# Altium footprint library Heat-Sinks.PcbLib: 58 footprints (part 1 of 4)
Each footprint in its own frame and in the unit in brackets; x right, y up, seen from the top. Pads: shape width x height; smd on the part's side, far side on the other; paste and mask are expansions set on the pad; w line width, h text height; cw(c..) or ccw(c..) is an arc to the next point about the centre after c.
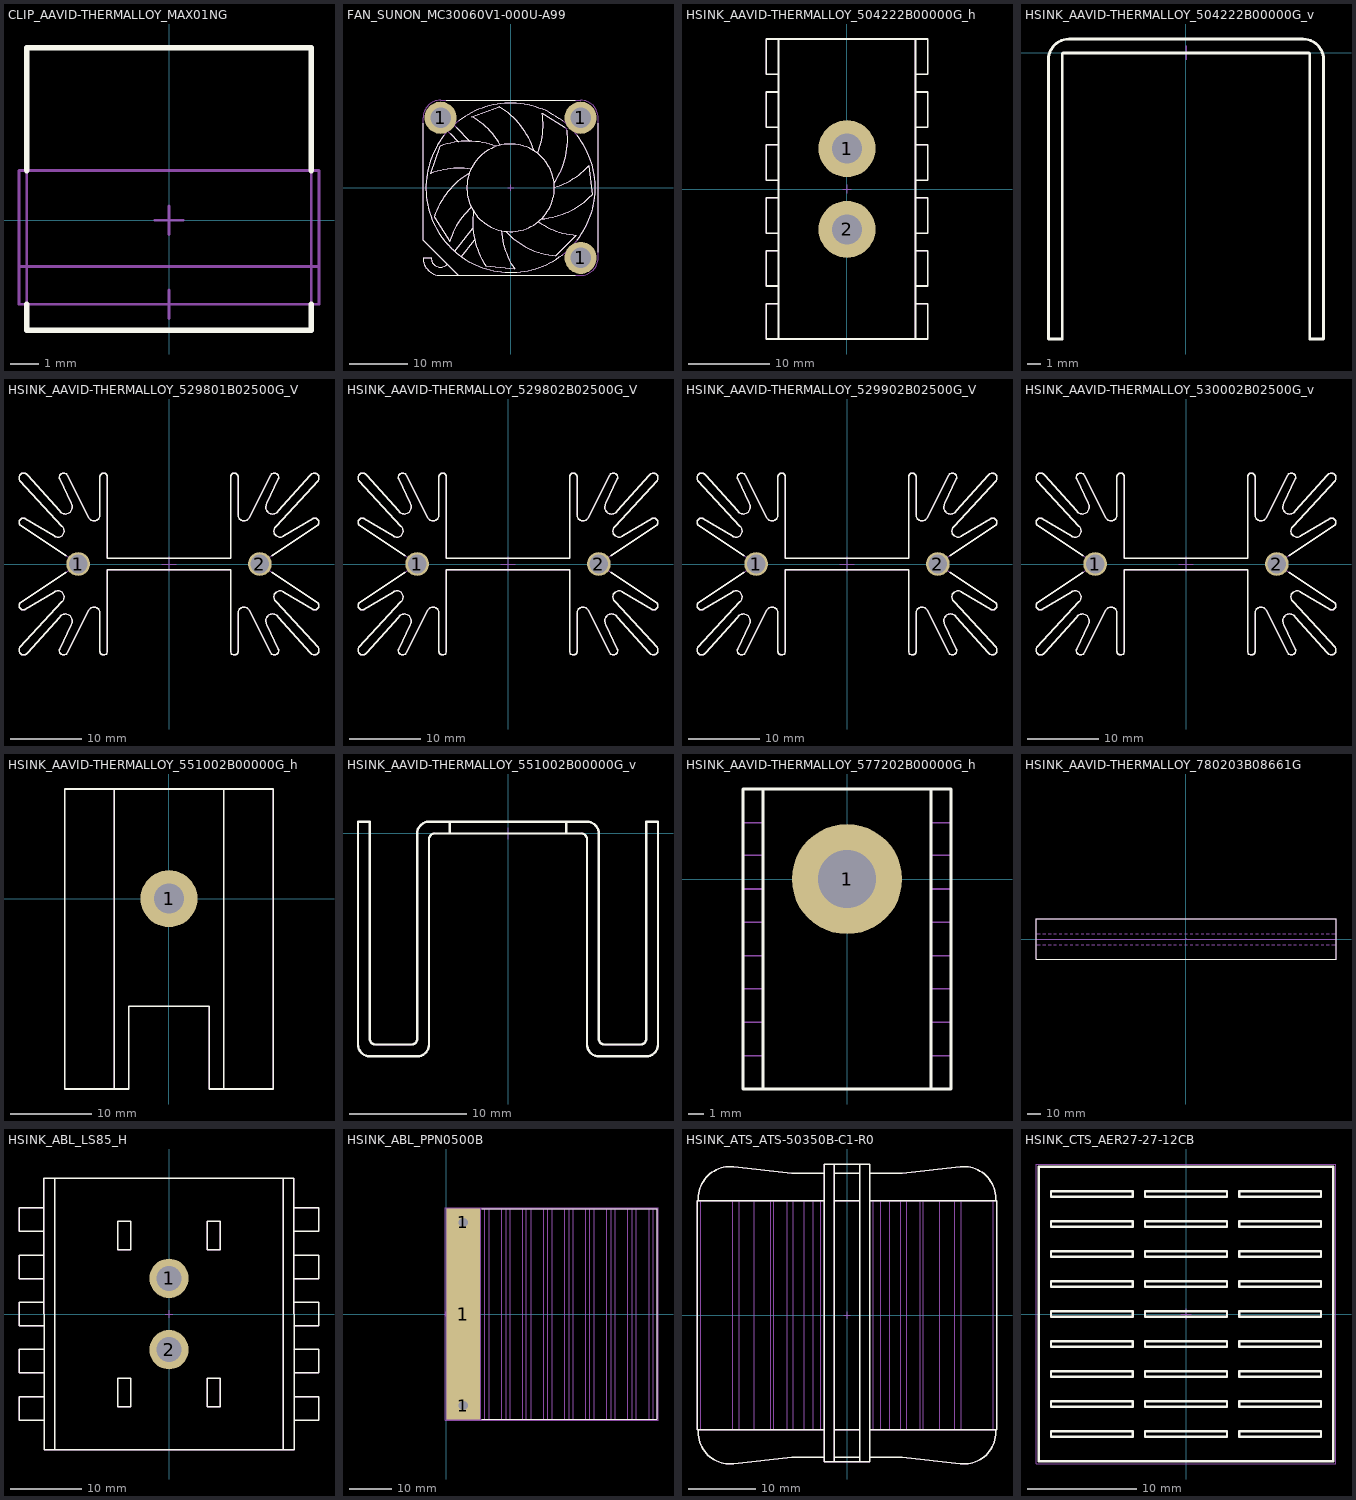
[diagram p0: the footprints below, top view; thin cyan lines are the x and y axes]

## CLIP_AAVID-THERMALLOY_MAX01NG [mm] "Retaining Clip for TO-220 Case (for Use with 78020 Heat-Sink)"
height 22
Top Overlay:
  lines w0.2: -5,-2.95 -5,-3.86 5,-3.86 5,-2.95 ; -5,1.75 -5,6.057 5,6.057 5,1.75
Mechanical 8:
  lines w0.1: -5.27,-1.63 5.27,-1.63 ; -0.5,0 0,0 ; 0,-3.45 0,-2.95 ; 0,-2.45 0,-2.95 ; 0,-0.5 0,0 ; 0,0.5 0,0 ; 0.5,0 0,0 ; 0,-2.95 5.27,-2.95 5.27,1.75 -5.27,1.75 -5.27,-2.95 0,-2.95
Mechanical 14:
  lines w0.1: -5,-3.86 -5,6.057 5,6.057 5,-3.86 -5,-3.86
3D body "CLIP_AAVID-THERMALLOY_780203B08661G.stp": height 29.86, standoff 7.65, extent -5,-3.86 5,6.065

## FAN_SUNON_MC30060V1-000U-A99 [mm] "5VDC, 9500RPM, 28.0dB(A),  30 x 30 x 6mm Axial Fan"
height 6.9
pads (3):
  round 5.5 hole 3.5: 1(-12,12) 1(12,-12) 1(12,12)
Top Overlay:
  circle w0.2: c0,0 r7.5
  lines w0.2: -15,11.04 -15,-9 -9,-15 ; -11.448,8.899 ccw(c0,0) 8.899,-11.448 ; -11.04,15 11.04,15 ; -10.869,-13.131 cw(c-12,-12) -13.6,-12 -15,-12 ccw(c-12,-12) -12,-15 11.04,-15 ; -10.367,9.306 -8.957,7.897 ; -9.607,-10.861 -6.468,-6.918 ; -9.308,10.364 -6.962,7.991 ; -8.899,11.448 cw(c0,0) 8.899,11.448 ; -8.434,-11.795 -6.16,-8.94 ; -7.068,2.508 ccw(c-0.2,-9.205) -13.095,-4.952 -10.421,-9.183 cw(c2.008,-12.921) -6.725,-3.32 ; -6.789,3.188 ccw(c-8.85,-9.626) -13.677,2.422 -12.036,7.151 cw(c-7.321,-5.583) -2.446,7.09 ; -6.368,-3.962 ccw(c7.073,-5.895) -4.293,-13.326 0.682,-13.873 cw(c11.354,-6.486) -1.598,-7.328 ; -1.74,7.295 ccw(c-13.044,0.918) -6.634,12.203 -1.914,13.869 cw(c-8.93,2.243) 4.018,6.333 ; -0.873,-7.449 ccw(c9.019,1.854) 7.742,-11.665 11.272,-8.116 cw(c12.15,4.833) 4.733,-5.818 ; 4.619,5.909 ccw(c-7.415,10.77) 5.405,12.795 9.316,10.352 ; 5.28,-5.327 ccw(c4.174,8.207) 13.947,-1.22 13.373,3.752 cw(c3.797,12.513) 7.5,0.073 ; 7.456,0.807 ccw(c-3.814,8.38) 9.683,9.866 ; 11.448,-8.899 ccw(c0,0) 11.448,8.899 ; 15,-11.04 15,11.04
Mechanical 8:
  lines w0.1: -12.5,12 -12,12 ; -12,11.5 -12,12 ; -12,12.5 -12,12 ; -11.5,12 -12,12 ; -0.5,0 0,0 ; 0,-0.5 0,0 ; 0,0.5 0,0 ; 0.5,0 0,0 ; 11.5,-12 12,-12 ; 11.5,12 12,12 ; 12,-12.5 12,-12 ; 12,-11.5 12,-12 ; 12,11.5 12,12 ; 12,12.5 12,12 ; 12.5,-12 12,-12 ; 12.5,12 12,12
Mechanical 14:
  circle w0.1: c0,0 r14.5
  circle w0.1: c-12,12 r1.6
  circle w0.1: c12,12 r1.6
  circle w0.1: c12,-12 r1.6
  circle w0.1: c0,0 r7.5
  lines w0.1: -10.869,-13.131 cw(c-12,-12) -13.6,-12 -15,-12 ccw(c-12,-12) -12,-15 12,-15 ccw(c12,-12) 15,-12 15,12 ccw(c12,12) 12,15 -12,15 ccw(c-12,12) -15,12 -15,-9 -9,-15 ; -10.77,9.709 -8.957,7.897 ; -9.709,10.77 -6.962,7.991 ; -9.607,-10.861 -6.468,-6.918 ; -8.434,-11.795 -6.16,-8.94 ; -7.068,2.508 ccw(c-0.2,-9.205) -13.095,-4.952 -10.421,-9.183 cw(c2.008,-12.921) -6.725,-3.32 ; -6.789,3.188 ccw(c-8.85,-9.626) -13.677,2.422 -12.036,7.151 cw(c-7.321,-5.583) -2.446,7.09 ; -6.368,-3.962 ccw(c7.073,-5.895) -4.293,-13.326 0.682,-13.873 cw(c11.354,-6.486) -1.598,-7.328 ; -1.74,7.295 ccw(c-13.044,0.918) -6.634,12.203 -1.914,13.869 cw(c-8.93,2.243) 4.018,6.333 ; -0.873,-7.449 ccw(c9.019,1.854) 7.742,-11.665 11.272,-8.116 cw(c12.15,4.833) 4.733,-5.818 ; 4.619,5.909 ccw(c-7.415,10.77) 5.405,12.795 9.65,10.143 cw(c-3.814,8.38) 7.456,0.807 ; 5.28,-5.327 ccw(c4.174,8.207) 13.947,-1.22 13.373,3.752 cw(c3.797,12.513) 7.5,0.073
3D body "FAN_SUNON_MC30060V1-000U-A99.stp": height 6.9, standoff 0, extent -15,-16.931 15,15

## HSINK_AAVID-THERMALLOY_504222B00000G_h [mm] "Dual TO-220 Heat Sink  Rth: 6.4°C/W, Body 36.83mm x 19.81mm  Height 21.59mm"
height 21.59
pads (2):
  round 7 hole 3.7: 1(0,4.955) 2(0,-4.955)
Top Overlay:
  lines w0.2: -8.405,-18.415 -8.405,18.415 ; -8.405,-14.082 -9.905,-14.082 -9.905,-18.415 9.905,-18.415 9.905,-14.082 8.405,-14.082 ; -8.405,-11.915 -9.905,-11.915 -9.905,-7.583 -8.405,-7.583 ; -8.405,-5.416 -9.905,-5.416 -9.905,-1.083 -8.405,-1.083 ; -8.405,1.083 -9.905,1.083 -9.905,5.416 -8.405,5.416 ; -8.405,7.583 -9.905,7.583 -9.905,11.915 -8.405,11.915 ; -8.405,14.082 -9.905,14.082 -9.905,18.415 9.905,18.415 9.905,14.082 8.405,14.082 ; 8.405,-18.415 8.405,18.415 ; 8.405,-11.915 9.905,-11.915 9.905,-7.583 8.405,-7.583 ; 8.405,-5.416 9.905,-5.416 9.905,-1.083 8.405,-1.083 ; 8.405,1.083 9.905,1.083 9.905,5.416 8.405,5.416 ; 8.405,7.583 9.905,7.583 9.905,11.915 8.405,11.915
Mechanical 8:
  lines w0.1: -0.5,-4.955 0,-4.955 ; -0.5,0 0,0 ; -0.5,4.955 0,4.955 ; 0,-5.455 0,-4.955 ; 0,-4.455 0,-4.955 ; 0,-0.5 0,0 ; 0,0.5 0,0 ; 0,4.455 0,4.955 ; 0,5.455 0,4.955 ; 0.5,-4.955 0,-4.955 ; 0.5,0 0,0 ; 0.5,4.955 0,4.955
Mechanical 14:
  circle w0.1: c0,-4.955 r1.85
  circle w0.1: c0,4.955 r1.85
  lines w0.1: -8.405,-18.415 -8.405,18.415 ; -8.405,-14.082 -9.905,-14.082 -9.905,-18.415 9.905,-18.415 9.905,-14.082 8.405,-14.082 ; -8.405,-11.915 -9.905,-11.915 -9.905,-7.583 -8.405,-7.583 ; -8.405,-5.416 -9.905,-5.416 -9.905,-1.083 -8.405,-1.083 ; -8.405,1.083 -9.905,1.083 -9.905,5.416 -8.405,5.416 ; -8.405,7.583 -9.905,7.583 -9.905,11.915 -8.405,11.915 ; -8.405,14.082 -9.905,14.082 -9.905,18.415 9.905,18.415 9.905,14.082 8.405,14.082 ; 8.405,-18.415 8.405,18.415 ; 8.405,-11.915 9.905,-11.915 9.905,-7.583 8.405,-7.583 ; 8.405,-5.416 9.905,-5.416 9.905,-1.083 8.405,-1.083 ; 8.405,1.083 9.905,1.083 9.905,5.416 8.405,5.416 ; 8.405,7.583 9.905,7.583 9.905,11.915 8.405,11.915
3D body "HSINK_AAVID-THERMALLOY_504222B00000G.stp": height 21.59, standoff 0, extent -9.905,-18.415 9.905,18.415

## HSINK_AAVID-THERMALLOY_504222B00000G_v [mm] "Dual TO-220 Heat Sink  Rth: 6.4°C/W, Body 36.83mm x 19.81mm  Height 36.83mm"
height 36.83
Top Overlay:
  lines w0.2: -9.905,-20.59 -9.905,-0.5 cw(c-8.405,-0.5) -8.405,1 8.405,1 cw(c8.405,-0.5) 9.905,-0.5 9.905,-20.59 8.905,-20.59 8.905,-0.1 ccw(c8.805,-0.1) 8.805,0 -8.805,0 ccw(c-8.805,-0.1) -8.905,-0.1 -8.905,-20.59 -9.905,-20.59
Mechanical 8:
  lines w0.1: -0.5,0 0,0 ; 0,-0.5 0,0 ; 0,0.5 0,0 ; 0.5,0 0,0
Mechanical 14:
  lines w0.1: -9.905,-20.59 -9.905,-0.5 cw(c-8.405,-0.5) -8.405,1 8.405,1 cw(c8.405,-0.5) 9.905,-0.5 9.905,-20.59 8.905,-20.59 8.905,-0.1 ccw(c8.805,-0.1) 8.805,0 -8.805,0 ccw(c-8.805,-0.1) -8.905,-0.1 -8.905,-20.59 -9.905,-20.59
3D body "HSINK_AAVID-THERMALLOY_504222B00000G_v.stp": height 36.83, standoff 0, extent -9.905,-20.59 9.905,1

## HSINK_AAVID-THERMALLOY_529801B02500G_V [mm] "TO-218, TO-247 Extruded Heatsinks Rth: 5°C/W  - Vertical Mount - Height 38.1mm"
height 38.1
pads (2):
  round 3.3 hole 2.6: 1(-12.7,0) 2(12.7,0)
Top Overlay:
  lines w0.2: -14.33,-1.159 -20.759,-5.39 ccw(c-20.361,-5.831) -20.077,-6.353 -16.046,-3.923 cw(c-15.515,-4.602) -14.983,-5.281 -20.831,-11.66 ccw(c-20.299,-12.044) -19.768,-12.428 -15.279,-7.408 cw(c-14.481,-7.939) -13.684,-8.471 -15.279,-11.897 ccw(c-14.717,-12.103) -14.215,-12.428 -11.195,-6.447 cw(c-10.476,-6.821) -9.667,-6.876 -9.667,-12.168 ccw(c-9.136,-12.168) -8.604,-12.168 -8.604,-0.785 8.604,-0.785 8.604,-12.168 ccw(c9.136,-12.168) 9.667,-12.168 9.667,-6.876 cw(c10.476,-6.821) 11.195,-6.447 14.215,-12.428 ccw(c14.717,-12.103) 15.279,-11.897 13.684,-8.471 cw(c14.481,-7.939) 15.279,-7.408 19.768,-12.428 ccw(c20.299,-12.044) 20.831,-11.66 14.983,-5.281 cw(c15.515,-4.602) 16.046,-3.923 20.077,-6.353 ccw(c20.361,-5.831) 20.759,-5.39 14.33,-1.159 ; -14.33,1.159 -20.759,5.39 cw(c-20.361,5.831) -20.077,6.353 -16.046,3.923 ccw(c-15.515,4.602) -14.983,5.281 -20.831,11.66 cw(c-20.299,12.044) -19.768,12.428 -15.279,7.408 ccw(c-14.481,7.939) -13.684,8.471 -15.279,11.897 cw(c-14.717,12.103) -14.215,12.428 -11.195,6.447 ccw(c-10.476,6.821) -9.667,6.876 -9.667,12.168 cw(c-9.136,12.168) -8.604,12.168 -8.604,0.785 8.604,0.785 8.604,12.168 cw(c9.136,12.168) 9.667,12.168 9.667,6.876 ccw(c10.476,6.821) 11.195,6.447 14.215,12.428 cw(c14.717,12.103) 15.279,11.897 13.684,8.471 ccw(c14.481,7.939) 15.279,7.408 19.768,12.428 cw(c20.299,12.044) 20.831,11.66 14.983,5.281 ccw(c15.515,4.602) 16.046,3.923 20.077,6.353 cw(c20.361,5.831) 20.759,5.39 14.33,1.159
Mechanical 8:
  lines w0.1: -13.7,0 -12.7,0 ; -12.7,-1 -12.7,0 ; -12.7,1 -12.7,0 ; -11.7,0 -12.7,0 ; -1,0 0,0 ; 0,-1 0,0 ; 0,1 0,0 ; 1,0 0,0 ; 11.7,0 12.7,0 ; 12.7,-1 12.7,0 ; 12.7,1 12.7,0 ; 13.7,0 12.7,0
Mechanical 14:
  lines w0.1: -20.831,-11.66 ccw(c-20.299,-12.044) -19.768,-12.428 -15.279,-7.408 cw(c-14.481,-7.939) -13.684,-8.471 -15.279,-11.897 ccw(c-14.717,-12.103) -14.215,-12.428 -11.195,-6.447 cw(c-10.476,-6.821) -9.667,-6.876 -9.667,-12.168 ccw(c-9.136,-12.168) -8.604,-12.168 -8.604,-0.785 8.604,-0.785 8.604,-12.168 ccw(c9.136,-12.168) 9.667,-12.168 9.667,-6.876 cw(c10.476,-6.821) 11.195,-6.447 14.215,-12.428 ccw(c14.717,-12.103) 15.279,-11.897 13.684,-8.471 cw(c14.481,-7.939) 15.279,-7.408 19.768,-12.428 ccw(c20.299,-12.044) 20.831,-11.66 14.983,-5.281 cw(c15.515,-4.602) 16.046,-3.923 20.077,-6.353 ccw(c20.361,-5.831) 20.759,-5.39 13.71,-0.75 13.611,-0.75 cw(c12.7,0) 13.611,0.75 13.71,0.75 20.759,5.39 ccw(c20.361,5.831) 20.077,6.353 16.046,3.923 cw(c15.515,4.602) 14.983,5.281 20.831,11.66 ccw(c20.299,12.044) 19.768,12.428 15.279,7.408 cw(c14.481,7.939) 13.684,8.471 15.279,11.897 ccw(c14.717,12.103) 14.215,12.428 11.195,6.447 cw(c10.476,6.821) 9.667,6.876 9.667,12.168 ccw(c9.136,12.168) 8.604,12.168 8.604,0.785 -8.604,0.785 -8.604,12.168 ccw(c-9.136,12.168) -9.667,12.168 -9.667,6.876 cw(c-10.476,6.821) -11.195,6.447 -14.215,12.428 ccw(c-14.717,12.103) -15.279,11.897 -13.684,8.471 cw(c-14.481,7.939) -15.279,7.408 -19.768,12.428 ccw(c-20.299,12.044) -20.831,11.66 -14.983,5.281 cw(c-15.515,4.602) -16.046,3.923 -20.077,6.353 ccw(c-20.361,5.831) -20.759,5.39 -13.71,0.75 -13.611,0.75 cw(c-12.7,0) -13.611,-0.75 -13.71,-0.75 -20.759,-5.39 ccw(c-20.361,-5.831) -20.077,-6.353 -16.046,-3.923 cw(c-15.515,-4.602) -14.983,-5.281 -20.831,-11.66
3D body "HSINK_AAVID-THERMALLOY_529801B02500G_V.stp": height 31.8, standoff -3.96, extent -20.955,-12.7 20.955,12.7

## HSINK_AAVID-THERMALLOY_529802B02500G_V [mm] "TO-220 Extruded Heatsinks Rth: 3.7°C/W  - Vertical Mount - Height 38.1mm"
height 38.1
pads (2):
  round 3.3 hole 2.6: 1(-12.7,0) 2(12.7,0)
Top Overlay:
  lines w0.2: -14.33,-1.159 -20.759,-5.39 ccw(c-20.361,-5.831) -20.077,-6.353 -16.046,-3.923 cw(c-15.515,-4.602) -14.983,-5.281 -20.831,-11.66 ccw(c-20.299,-12.044) -19.768,-12.428 -15.279,-7.408 cw(c-14.481,-7.939) -13.684,-8.471 -15.279,-11.897 ccw(c-14.717,-12.103) -14.215,-12.428 -11.195,-6.447 cw(c-10.476,-6.821) -9.667,-6.876 -9.667,-12.168 ccw(c-9.136,-12.168) -8.604,-12.168 -8.604,-0.785 8.604,-0.785 8.604,-12.168 ccw(c9.136,-12.168) 9.667,-12.168 9.667,-6.876 cw(c10.476,-6.821) 11.195,-6.447 14.215,-12.428 ccw(c14.717,-12.103) 15.279,-11.897 13.684,-8.471 cw(c14.481,-7.939) 15.279,-7.408 19.768,-12.428 ccw(c20.299,-12.044) 20.831,-11.66 14.983,-5.281 cw(c15.515,-4.602) 16.046,-3.923 20.077,-6.353 ccw(c20.361,-5.831) 20.759,-5.39 14.33,-1.159 ; -14.33,1.159 -20.759,5.39 cw(c-20.361,5.831) -20.077,6.353 -16.046,3.923 ccw(c-15.515,4.602) -14.983,5.281 -20.831,11.66 cw(c-20.299,12.044) -19.768,12.428 -15.279,7.408 ccw(c-14.481,7.939) -13.684,8.471 -15.279,11.897 cw(c-14.717,12.103) -14.215,12.428 -11.195,6.447 ccw(c-10.476,6.821) -9.667,6.876 -9.667,12.168 cw(c-9.136,12.168) -8.604,12.168 -8.604,0.785 8.604,0.785 8.604,12.168 cw(c9.136,12.168) 9.667,12.168 9.667,6.876 ccw(c10.476,6.821) 11.195,6.447 14.215,12.428 cw(c14.717,12.103) 15.279,11.897 13.684,8.471 ccw(c14.481,7.939) 15.279,7.408 19.768,12.428 cw(c20.299,12.044) 20.831,11.66 14.983,5.281 ccw(c15.515,4.602) 16.046,3.923 20.077,6.353 cw(c20.361,5.831) 20.759,5.39 14.33,1.159
Mechanical 8:
  lines w0.1: -13.7,0 -12.7,0 ; -12.7,-1 -12.7,0 ; -12.7,1 -12.7,0 ; -11.7,0 -12.7,0 ; -1,0 0,0 ; 0,-1 0,0 ; 0,1 0,0 ; 1,0 0,0 ; 11.7,0 12.7,0 ; 12.7,-1 12.7,0 ; 12.7,1 12.7,0 ; 13.7,0 12.7,0
Mechanical 14:
  lines w0.1: -20.831,-11.66 ccw(c-20.299,-12.044) -19.768,-12.428 -15.279,-7.408 cw(c-14.481,-7.939) -13.684,-8.471 -15.279,-11.897 ccw(c-14.717,-12.103) -14.215,-12.428 -11.195,-6.447 cw(c-10.476,-6.821) -9.667,-6.876 -9.667,-12.168 ccw(c-9.136,-12.168) -8.604,-12.168 -8.604,-0.785 8.604,-0.785 8.604,-12.168 ccw(c9.136,-12.168) 9.667,-12.168 9.667,-6.876 cw(c10.476,-6.821) 11.195,-6.447 14.215,-12.428 ccw(c14.717,-12.103) 15.279,-11.897 13.684,-8.471 cw(c14.481,-7.939) 15.279,-7.408 19.768,-12.428 ccw(c20.299,-12.044) 20.831,-11.66 14.983,-5.281 cw(c15.515,-4.602) 16.046,-3.923 20.077,-6.353 ccw(c20.361,-5.831) 20.759,-5.39 13.71,-0.75 13.611,-0.75 cw(c12.7,0) 13.611,0.75 13.71,0.75 20.759,5.39 ccw(c20.361,5.831) 20.077,6.353 16.046,3.923 cw(c15.515,4.602) 14.983,5.281 20.831,11.66 ccw(c20.299,12.044) 19.768,12.428 15.279,7.408 cw(c14.481,7.939) 13.684,8.471 15.279,11.897 ccw(c14.717,12.103) 14.215,12.428 11.195,6.447 cw(c10.476,6.821) 9.667,6.876 9.667,12.168 ccw(c9.136,12.168) 8.604,12.168 8.604,0.785 -8.604,0.785 -8.604,12.168 ccw(c-9.136,12.168) -9.667,12.168 -9.667,6.876 cw(c-10.476,6.821) -11.195,6.447 -14.215,12.428 ccw(c-14.717,12.103) -15.279,11.897 -13.684,8.471 cw(c-14.481,7.939) -15.279,7.408 -19.768,12.428 ccw(c-20.299,12.044) -20.831,11.66 -14.983,5.281 cw(c-15.515,4.602) -16.046,3.923 -20.077,6.353 ccw(c-20.361,5.831) -20.759,5.39 -13.71,0.75 -13.611,0.75 cw(c-12.7,0) -13.611,-0.75 -13.71,-0.75 -20.759,-5.39 ccw(c-20.361,-5.831) -20.077,-6.353 -16.046,-3.923 cw(c-15.515,-4.602) -14.983,-5.281 -20.831,-11.66
3D body "HSINK_AAVID-THERMALLOY_529802B02500G_V.stp": height 38.1, standoff -3.96, extent -20.954,-12.7 20.955,12.7

## HSINK_AAVID-THERMALLOY_529902B02500G_V [mm] "TO-218, TO-247 Extruded Heatsinks Rth: 4.5°C/W  - Vertical Mount - Height 50.8mm"
height 50.8
pads (2):
  round 3.3 hole 2.6: 1(-12.7,0) 2(12.7,0)
Top Overlay:
  lines w0.2: -14.33,-1.159 -20.759,-5.39 ccw(c-20.361,-5.831) -20.077,-6.353 -16.046,-3.923 cw(c-15.515,-4.602) -14.983,-5.281 -20.831,-11.66 ccw(c-20.299,-12.044) -19.768,-12.428 -15.279,-7.408 cw(c-14.481,-7.939) -13.684,-8.471 -15.279,-11.897 ccw(c-14.717,-12.103) -14.215,-12.428 -11.195,-6.447 cw(c-10.476,-6.821) -9.667,-6.876 -9.667,-12.168 ccw(c-9.136,-12.168) -8.604,-12.168 -8.604,-0.785 8.604,-0.785 8.604,-12.168 ccw(c9.136,-12.168) 9.667,-12.168 9.667,-6.876 cw(c10.476,-6.821) 11.195,-6.447 14.215,-12.428 ccw(c14.717,-12.103) 15.279,-11.897 13.684,-8.471 cw(c14.481,-7.939) 15.279,-7.408 19.768,-12.428 ccw(c20.299,-12.044) 20.831,-11.66 14.983,-5.281 cw(c15.515,-4.602) 16.046,-3.923 20.077,-6.353 ccw(c20.361,-5.831) 20.759,-5.39 14.33,-1.159 ; -14.33,1.159 -20.759,5.39 cw(c-20.361,5.831) -20.077,6.353 -16.046,3.923 ccw(c-15.515,4.602) -14.983,5.281 -20.831,11.66 cw(c-20.299,12.044) -19.768,12.428 -15.279,7.408 ccw(c-14.481,7.939) -13.684,8.471 -15.279,11.897 cw(c-14.717,12.103) -14.215,12.428 -11.195,6.447 ccw(c-10.476,6.821) -9.667,6.876 -9.667,12.168 cw(c-9.136,12.168) -8.604,12.168 -8.604,0.785 8.604,0.785 8.604,12.168 cw(c9.136,12.168) 9.667,12.168 9.667,6.876 ccw(c10.476,6.821) 11.195,6.447 14.215,12.428 cw(c14.717,12.103) 15.279,11.897 13.684,8.471 ccw(c14.481,7.939) 15.279,7.408 19.768,12.428 cw(c20.299,12.044) 20.831,11.66 14.983,5.281 ccw(c15.515,4.602) 16.046,3.923 20.077,6.353 cw(c20.361,5.831) 20.759,5.39 14.33,1.159
Mechanical 8:
  lines w0.1: -13.7,0 -12.7,0 ; -12.7,-1 -12.7,0 ; -12.7,1 -12.7,0 ; -11.7,0 -12.7,0 ; -1,0 0,0 ; 0,-1 0,0 ; 0,1 0,0 ; 1,0 0,0 ; 11.7,0 12.7,0 ; 12.7,-1 12.7,0 ; 12.7,1 12.7,0 ; 13.7,0 12.7,0
Mechanical 14:
  lines w0.1: -20.831,-11.66 ccw(c-20.299,-12.044) -19.768,-12.428 -15.279,-7.408 cw(c-14.481,-7.939) -13.684,-8.471 -15.279,-11.897 ccw(c-14.717,-12.103) -14.215,-12.428 -11.195,-6.447 cw(c-10.476,-6.821) -9.667,-6.876 -9.667,-12.168 ccw(c-9.136,-12.168) -8.604,-12.168 -8.604,-0.785 8.604,-0.785 8.604,-12.168 ccw(c9.136,-12.168) 9.667,-12.168 9.667,-6.876 cw(c10.476,-6.821) 11.195,-6.447 14.215,-12.428 ccw(c14.717,-12.103) 15.279,-11.897 13.684,-8.471 cw(c14.481,-7.939) 15.279,-7.408 19.768,-12.428 ccw(c20.299,-12.044) 20.831,-11.66 14.983,-5.281 cw(c15.515,-4.602) 16.046,-3.923 20.077,-6.353 ccw(c20.361,-5.831) 20.759,-5.39 13.71,-0.75 13.611,-0.75 cw(c12.7,0) 13.611,0.75 13.71,0.75 20.759,5.39 ccw(c20.361,5.831) 20.077,6.353 16.046,3.923 cw(c15.515,4.602) 14.983,5.281 20.831,11.66 ccw(c20.299,12.044) 19.768,12.428 15.279,7.408 cw(c14.481,7.939) 13.684,8.471 15.279,11.897 ccw(c14.717,12.103) 14.215,12.428 11.195,6.447 cw(c10.476,6.821) 9.667,6.876 9.667,12.168 ccw(c9.136,12.168) 8.604,12.168 8.604,0.785 -8.604,0.785 -8.604,12.168 ccw(c-9.136,12.168) -9.667,12.168 -9.667,6.876 cw(c-10.476,6.821) -11.195,6.447 -14.215,12.428 ccw(c-14.717,12.103) -15.279,11.897 -13.684,8.471 cw(c-14.481,7.939) -15.279,7.408 -19.768,12.428 ccw(c-20.299,12.044) -20.831,11.66 -14.983,5.281 cw(c-15.515,4.602) -16.046,3.923 -20.077,6.353 ccw(c-20.361,5.831) -20.759,5.39 -13.71,0.75 -13.611,0.75 cw(c-12.7,0) -13.611,-0.75 -13.71,-0.75 -20.759,-5.39 ccw(c-20.361,-5.831) -20.077,-6.353 -16.046,-3.923 cw(c-15.515,-4.602) -14.983,-5.281 -20.831,-11.66
3D body "HSINK_AAVID-THERMALLOY_529902B02500G_V.stp": height 44.5, standoff -3.96, extent -20.954,-12.7 20.955,12.7

## HSINK_AAVID-THERMALLOY_530002B02500G_v [mm] "TO-220, Extruded Heatsinks Rth: 2.6K/W  - Vertical Mount - Height 63.5mm"
height 63.5
pads (2):
  round 3.3 hole 2.6: 1(-12.7,0) 2(12.7,0)
Top Overlay:
  lines w0.2: -14.33,-1.159 -20.759,-5.39 ccw(c-20.361,-5.831) -20.077,-6.353 -16.046,-3.923 cw(c-15.515,-4.602) -14.983,-5.281 -20.831,-11.66 ccw(c-20.299,-12.044) -19.768,-12.428 -15.279,-7.408 cw(c-14.481,-7.939) -13.684,-8.471 -15.279,-11.897 ccw(c-14.717,-12.103) -14.215,-12.428 -11.195,-6.447 cw(c-10.476,-6.821) -9.667,-6.876 -9.667,-12.168 ccw(c-9.136,-12.168) -8.604,-12.168 -8.604,-0.785 8.604,-0.785 8.604,-12.168 ccw(c9.136,-12.168) 9.667,-12.168 9.667,-6.876 cw(c10.476,-6.821) 11.195,-6.447 14.215,-12.428 ccw(c14.717,-12.103) 15.279,-11.897 13.684,-8.471 cw(c14.481,-7.939) 15.279,-7.408 19.768,-12.428 ccw(c20.299,-12.044) 20.831,-11.66 14.983,-5.281 cw(c15.515,-4.602) 16.046,-3.923 20.077,-6.353 ccw(c20.361,-5.831) 20.759,-5.39 14.33,-1.159 ; -14.33,1.159 -20.759,5.39 cw(c-20.361,5.831) -20.077,6.353 -16.046,3.923 ccw(c-15.515,4.602) -14.983,5.281 -20.831,11.66 cw(c-20.299,12.044) -19.768,12.428 -15.279,7.408 ccw(c-14.481,7.939) -13.684,8.471 -15.279,11.897 cw(c-14.717,12.103) -14.215,12.428 -11.195,6.447 ccw(c-10.476,6.821) -9.667,6.876 -9.667,12.168 cw(c-9.136,12.168) -8.604,12.168 -8.604,0.785 8.604,0.785 8.604,12.168 cw(c9.136,12.168) 9.667,12.168 9.667,6.876 ccw(c10.476,6.821) 11.195,6.447 14.215,12.428 cw(c14.717,12.103) 15.279,11.897 13.684,8.471 ccw(c14.481,7.939) 15.279,7.408 19.768,12.428 cw(c20.299,12.044) 20.831,11.66 14.983,5.281 ccw(c15.515,4.602) 16.046,3.923 20.077,6.353 cw(c20.361,5.831) 20.759,5.39 14.33,1.159
Mechanical 8:
  lines w0.1: -13.7,0 -12.7,0 ; -12.7,-1 -12.7,0 ; -12.7,1 -12.7,0 ; -11.7,0 -12.7,0 ; -1,0 0,0 ; 0,-1 0,0 ; 0,1 0,0 ; 1,0 0,0 ; 11.7,0 12.7,0 ; 12.7,-1 12.7,0 ; 12.7,1 12.7,0 ; 13.7,0 12.7,0
Mechanical 14:
  lines w0.1: -20.831,-11.66 ccw(c-20.299,-12.044) -19.768,-12.428 -15.279,-7.408 cw(c-14.481,-7.939) -13.684,-8.471 -15.279,-11.897 ccw(c-14.717,-12.103) -14.215,-12.428 -11.195,-6.447 cw(c-10.476,-6.821) -9.667,-6.876 -9.667,-12.168 ccw(c-9.136,-12.168) -8.604,-12.168 -8.604,-0.785 8.604,-0.785 8.604,-12.168 ccw(c9.136,-12.168) 9.667,-12.168 9.667,-6.876 cw(c10.476,-6.821) 11.195,-6.447 14.215,-12.428 ccw(c14.717,-12.103) 15.279,-11.897 13.684,-8.471 cw(c14.481,-7.939) 15.279,-7.408 19.768,-12.428 ccw(c20.299,-12.044) 20.831,-11.66 14.983,-5.281 cw(c15.515,-4.602) 16.046,-3.923 20.077,-6.353 ccw(c20.361,-5.831) 20.759,-5.39 13.71,-0.75 13.611,-0.75 cw(c12.7,0) 13.611,0.75 13.71,0.75 20.759,5.39 ccw(c20.361,5.831) 20.077,6.353 16.046,3.923 cw(c15.515,4.602) 14.983,5.281 20.831,11.66 ccw(c20.299,12.044) 19.768,12.428 15.279,7.408 cw(c14.481,7.939) 13.684,8.471 15.279,11.897 ccw(c14.717,12.103) 14.215,12.428 11.195,6.447 cw(c10.476,6.821) 9.667,6.876 9.667,12.168 ccw(c9.136,12.168) 8.604,12.168 8.604,0.785 -8.604,0.785 -8.604,12.168 ccw(c-9.136,12.168) -9.667,12.168 -9.667,6.876 cw(c-10.476,6.821) -11.195,6.447 -14.215,12.428 ccw(c-14.717,12.103) -15.279,11.897 -13.684,8.471 cw(c-14.481,7.939) -15.279,7.408 -19.768,12.428 ccw(c-20.299,12.044) -20.831,11.66 -14.983,5.281 cw(c-15.515,4.602) -16.046,3.923 -20.077,6.353 ccw(c-20.361,5.831) -20.759,5.39 -13.71,0.75 -13.611,0.75 cw(c-12.7,0) -13.611,-0.75 -13.71,-0.75 -20.759,-5.39 ccw(c-20.361,-5.831) -20.077,-6.353 -16.046,-3.923 cw(c-15.515,-4.602) -14.983,-5.281 -20.831,-11.66
3D body "HSINK_AAVID-THERMALLOY_530002B02500G_v.stp": height 63.5, standoff -3.96, extent -20.954,-12.7 20.955,12.7

## HSINK_AAVID-THERMALLOY_551002B00000G_h [mm] "TO-220, Aluminium Heat Sink  Rth: 12.4°C/W - Horizontal Mount"
height 19.99
pads (1):
  round 7 hole 3.7: 1(0,0)
Top Overlay:
  lines w0.2: -6.735,-23.37 -6.735,13.46 ; 6.735,-23.37 6.735,13.46 ; -12.78,-23.37 -12.78,13.46 12.78,13.46 12.78,-23.37 4.955,-23.37 4.955,-13.21 -4.955,-13.21 -4.955,-23.37 -12.78,-23.37
Mechanical 8:
  lines w0.05: -0.5,0 0,0 ; 0,-0.5 0,0 ; 0,0.5 0,0 ; 0.5,0 0,0
Mechanical 14:
  circle w0.1: c0,0 r1.84
  lines w0.1: -6.735,-23.37 -6.735,13.46 ; 6.735,-23.37 6.735,13.46 ; -12.78,-23.37 -12.78,13.46 12.78,13.46 12.78,-23.37 4.955,-23.37 4.955,-13.21 -4.955,-13.21 -4.955,-23.37 -12.78,-23.37
3D body "HSINK_AAVID-THERMALLOY_551002B00000G_h.stp": height 19.99, standoff 0, extent -12.78,-23.37 12.78,13.46

## HSINK_AAVID-THERMALLOY_551002B00000G_v [mm] "TO-220, Aluminium Heat Sink  Rth: 12.4°C/W - Vertical Mount"
height 36.83
Top Overlay:
  lines w0.2: -4.955,0 -4.955,1 ; 4.955,0 4.955,1 ; -12.78,-17.99 ccw(c-11.78,-17.99) -11.78,-18.99 -7.735,-18.99 ccw(c-7.735,-17.99) -6.735,-17.99 -6.735,-0.5 cw(c-6.235,-0.5) -6.235,0 6.235,0 cw(c6.235,-0.5) 6.735,-0.5 6.735,-17.99 ccw(c7.735,-17.99) 7.735,-18.99 11.78,-18.99 ccw(c11.78,-17.99) 12.78,-17.99 12.78,1 11.78,1 11.78,-17.49 cw(c11.28,-17.49) 11.28,-17.99 8.235,-17.99 cw(c8.235,-17.49) 7.735,-17.49 7.735,0 ccw(c6.735,0) 6.735,1 -6.735,1 ccw(c-6.735,0) -7.735,0 -7.735,-17.49 cw(c-8.235,-17.49) -8.235,-17.99 -11.28,-17.99 cw(c-11.28,-17.49) -11.78,-17.49 -11.78,1 -12.78,1 -12.78,-17.99
Mechanical 8:
  lines w0.05: -0.5,0 0,0 ; 0,-0.5 0,0 ; 0,0.5 0,0 ; 0.5,0 0,0
Mechanical 14:
  lines w0.1: -4.955,0 -4.955,1 ; 4.955,0 4.955,1 ; -12.78,-17.99 ccw(c-11.78,-17.99) -11.78,-18.99 -7.735,-18.99 ccw(c-7.735,-17.99) -6.735,-17.99 -6.735,-0.5 cw(c-6.235,-0.5) -6.235,0 6.235,0 cw(c6.235,-0.5) 6.735,-0.5 6.735,-17.99 ccw(c7.735,-17.99) 7.735,-18.99 11.78,-18.99 ccw(c11.78,-17.99) 12.78,-17.99 12.78,1 11.78,1 11.78,-17.49 cw(c11.28,-17.49) 11.28,-17.99 8.235,-17.99 cw(c8.235,-17.49) 7.735,-17.49 7.735,0 ccw(c6.735,0) 6.735,1 -6.735,1 ccw(c-6.735,0) -7.735,0 -7.735,-17.49 cw(c-8.235,-17.49) -8.235,-17.99 -11.28,-17.99 cw(c-11.28,-17.49) -11.78,-17.49 -11.78,1 -12.78,1 -12.78,-17.99
3D body "HSINK_AAVID-THERMALLOY_551002B00000G_v.stp": height 36.83, standoff 0, extent -12.78,-18.99 12.78,1

## HSINK_AAVID-THERMALLOY_577202B00000G_h [mm] "Heat Sink  Rth: 24.4°C/W - Horizontal  Mount"
height 12.7
pads (1):
  round 7 hole 3.7: 1(0,0)
Top Overlay:
  lines w0.2: -5.331,-13.33 -5.331,5.72 ; 5.331,-13.33 5.331,5.72 ; -6.605,-13.33 6.605,-13.33 6.605,5.72 -6.605,5.72 -6.605,-13.33
Mechanical 8:
  lines w0.1: -1,0 0,0 ; 0,-1 0,0 ; 0,1 0,0 ; 1,0 0,0
Mechanical 14:
  lines w0.1: -6.605,-11.208 -5.331,-11.208 ; -6.605,-9.092 -5.331,-9.092 ; -6.605,-6.976 -5.331,-6.976 ; -6.605,-4.86 -5.331,-4.86 ; -6.605,-2.743 -5.331,-2.743 ; -6.605,-0.629 -5.331,-0.629 ; -6.605,1.514 -5.331,1.514 ; -6.605,3.578 -5.331,3.578 ; -5.331,-13.33 -5.331,5.72 ; 5.331,-13.33 5.331,5.72 ; 5.331,-11.208 6.605,-11.208 ; 5.331,-9.092 6.605,-9.092 ; 5.331,-6.976 6.605,-6.976 ; 5.331,-4.86 6.605,-4.86 ; 5.331,-2.743 6.605,-2.743 ; 5.331,-0.629 6.605,-0.629 ; 5.331,1.514 6.605,1.514 ; 5.331,3.578 6.605,3.578 ; -6.605,-13.33 6.605,-13.33 6.605,5.72 -6.605,5.72 -6.605,-13.33
3D body "HSINK_AAVID-THERMALLOY_577202B00000_H.stp": height 12.7, standoff 0, extent -6.605,-13.33 6.605,5.72

## HSINK_AAVID-THERMALLOY_780203B08661G [mm] "TO-220, Black Anodized Extruded Heatsinks, Body 220mm x 30mm,  Height 47mm"
height 47
Top Overlay:
  lines w0.2: 110,14.985 110,0 110,-14.985 -110,-14.985 -110,0 -110,14.985 110,15.015
Mechanical 8:
  lines w0.1: -110,-4.08 -107,-4.08 ; -110,4.015 -107,4.015 ; -105,-4.08 -103,-4.08 ; -105,4.015 -103,4.015 ; -101,-4.08 -99,-4.08 ; -101,4.015 -99,4.015 ; -97,-4.08 -95,-4.08 ; -97,4.015 -95,4.015 ; -93,-4.08 -91,-4.08 ; -93,4.015 -91,4.015 ; -89,-4.08 -87,-4.08 ; -89,4.015 -87,4.015 ; -85,-4.08 -83,-4.08 ; -85,4.015 -83,4.015 ; -81,-4.08 -79,-4.08 ; -81,4.015 -79,4.015 ; -77,-4.08 -75,-4.08 ; -77,4.015 -75,4.015 ; -73,-4.08 -71,-4.08 ; -73,4.015 -71,4.015 ; -69,-4.08 -67,-4.08 ; -69,4.015 -67,4.015 ; -65,-4.08 -63,-4.08 ; -65,4.015 -63,4.015 ; -61,-4.08 -59,-4.08 ; -61,4.015 -59,4.015 ; -57,-4.08 -55,-4.08 ; -57,4.015 -55,4.015 ; -53,-4.08 -51,-4.08 ; -53,4.015 -51,4.015 ; -49,-4.08 -47,-4.08 ; -49,4.015 -47,4.015 ; -45,-4.08 -43,-4.08 ; -45,4.015 -43,4.015 ; -41,-4.08 -39,-4.08 ; -41,4.015 -39,4.015 ; -37,-4.08 -35,-4.08 ; -37,4.015 -35,4.015 ; -33,-4.08 -31,-4.08 ; -33,4.015 -31,4.015 ; -29,-4.08 -27,-4.08 ; -29,4.015 -27,4.015 ; -25,-4.08 -23,-4.08 ; -25,4.015 -23,4.015 ; -21,-4.08 -19,-4.08 ; -21,4.015 -19,4.015 ; -17,-4.08 -15,-4.08 ; -17,4.015 -15,4.015 ; -13,-4.08 -11,-4.08 ; -13,4.015 -11,4.015 ; -9,-4.08 -7,-4.08 ; -9,4.015 -7,4.015 ; -5,-4.08 -3,-4.08 ; -5,4.015 -3,4.015 ; -1,-4.08 1,-4.08 ; -1,4.015 1,4.015 ; -0.5,0 0,0 ; 0,-0.5 0,0 ; 0,0.5 0,0 ; 0.5,0 0,0 ; 3,-4.08 5,-4.08 ; 3,4.015 5,4.015 ; 7,-4.08 9,-4.08 ; 7,4.015 9,4.015 ; 11,-4.08 13,-4.08 ; 11,4.015 13,4.015 ; 15,-4.08 17,-4.08 ; 15,4.015 17,4.015 ; 19,-4.08 21,-4.08 ; 19,4.015 21,4.015 ; 23,-4.08 25,-4.08 ; 23,4.015 25,4.015 ; 27,-4.08 29,-4.08 ; 27,4.015 29,4.015 ; 31,-4.08 33,-4.08 ; 31,4.015 33,4.015 ; 35,-4.08 37,-4.08 ; 35,4.015 37,4.015 ; 39,-4.08 41,-4.08 ; 39,4.015 41,4.015 ; 43,-4.08 45,-4.08 ; 43,4.015 45,4.015 ; 47,-4.08 49,-4.08 ; 47,4.015 49,4.015 ; 51,-4.08 53,-4.08 ; 51,4.015 53,4.015 ; 55,-4.08 57,-4.08 ; 55,4.015 57,4.015 ; 59,-4.08 61,-4.08 ; 59,4.015 61,4.015 ; 63,-4.08 65,-4.08 ; 63,4.015 65,4.015 ; 67,-4.08 69,-4.08 ; 67,4.015 69,4.015 ; 71,-4.08 73,-4.08 ; 71,4.015 73,4.015 ; 75,-4.08 77,-4.08 ; 75,4.015 77,4.015 ; 79,-4.08 81,-4.08 ; 79,4.015 81,4.015 ; 83,-4.08 85,-4.08 ; 83,4.015 85,4.015 ; 87,-4.08 89,-4.08 ; 87,4.015 89,4.015 ; 91,-4.08 93,-4.08 ; 91,4.015 93,4.015 ; 95,-4.08 97,-4.08 ; 95,4.015 97,4.015 ; 99,-4.08 101,-4.08 ; 99,4.015 101,4.015 ; 103,-4.08 105,-4.08 ; 103,4.015 105,4.015 ; 107,-4.08 110,-4.08 ; 107,4.015 110,4.015
  lines w0.127: -110,0 0,0 110,0
Mechanical 14:
  lines w0.1: 110,14.985 110,0 110,-14.985 -110,-14.985 -110,0 -110,14.985 110,15.015
3D body "HSINK_AAVID-THERMALLOY_780203B08661G.stp": height 47, standoff 0, extent -110,-14.985 110,15.015

## HSINK_ABL_LS85_H [mm] "Heat Sink  Rth: 7.1°C/W 38mm L X 42 W X 25 H - Horizontal Mount"
height 25
pads (2):
  round 5.5 hole 3.5: 1(0,5) 2(0,-5)
Top Overlay:
  lines w0.2: -17.5,-14.85 -21,-14.85 -21,-11.55 -17.5,-11.55 ; -17.5,-8.25 -21,-8.25 -21,-4.95 -17.5,-4.95 ; -17.5,-1.65 -21,-1.65 -21,1.65 -17.5,1.65 ; -17.5,4.95 -21,4.95 -21,8.25 -17.5,8.25 ; -17.5,11.55 -21,11.55 -21,14.85 -17.5,14.85 ; -16,-19 -16,19 ; 16,-19 16,19 ; 17.5,-14.85 21,-14.85 21,-11.55 17.5,-11.55 ; 17.5,-8.25 21,-8.25 21,-4.95 17.5,-4.95 ; 17.5,-1.65 21,-1.65 21,1.65 17.5,1.65 ; 17.5,4.95 21,4.95 21,8.25 17.5,8.25 ; 17.5,11.55 21,11.55 21,14.85 17.5,14.85 ; -17.5,-19 17.5,-19 17.5,19 -17.5,19 -17.5,-19 ; -7.15,-13 -7.15,-9 -5.35,-9 -5.35,-13 -7.15,-13 ; -7.15,9 -7.15,13 -5.35,13 -5.35,9 -7.15,9 ; 5.35,-13 5.35,-9 7.15,-9 7.15,-13 5.35,-13 ; 5.35,9 5.35,13 7.15,13 7.15,9 5.35,9
Mechanical 8:
  lines w0.1: 0,-5 0,-4.5 0,-5 ; 0,-5 0.5,-5 0,-5 ; 0,-5 0,-5.5 0,-5 ; 0,-5 -0.5,-5 0,-5 ; 0,0 0,0.5 0,0 ; 0,0 0.5,0 0,0 ; 0,0 0,-0.5 0,0 ; 0,0 -0.5,0 0,0 ; 0,5 0,5.5 0,5 ; 0,5 0.5,5 0,5 ; 0,5 0,4.5 0,5 ; 0,5 -0.5,5 0,5
Mechanical 14:
  circle w0.1: c0,-5 r2
  circle w0.1: c0,5 r2
  lines w0.1: -17.5,-14.85 -21,-14.85 -21,-11.55 -17.5,-11.55 ; -17.5,-8.25 -21,-8.25 -21,-4.95 -17.5,-4.95 ; -17.5,-1.65 -21,-1.65 -21,1.65 -17.5,1.65 ; -17.5,4.95 -21,4.95 -21,8.25 -17.5,8.25 ; -17.5,11.55 -21,11.55 -21,14.85 -17.5,14.85 ; -16,-19 -16,19 ; 16,-19 16,19 ; 17.5,-14.85 21,-14.85 21,-11.55 17.5,-11.55 ; 17.5,-8.25 21,-8.25 21,-4.95 17.5,-4.95 ; 17.5,-1.65 21,-1.65 21,1.65 17.5,1.65 ; 17.5,4.95 21,4.95 21,8.25 17.5,8.25 ; 17.5,11.55 21,11.55 21,14.85 17.5,14.85 ; -17.5,-19 17.5,-19 17.5,19 -17.5,19 -17.5,-19 ; -7.15,-13 -7.15,-9 -5.35,-9 -5.35,-13 -7.15,-13 ; -7.15,9 -7.15,13 -5.35,13 -5.35,9 -7.15,9 ; 5.35,-13 5.35,-9 7.15,-9 7.15,-13 5.35,-13 ; 5.35,9 5.35,13 7.15,13 7.15,9 5.35,9
3D body "HSINK_ABL_LS85.stp": height 25, standoff 0, extent -21,-19 21,19

## HSINK_ABL_PPN0500B [mm] "TO-220 Heat Sink  Rth: 5°C/W - Vertical Mount Body L 50mm x W 50mm x H 28mm"
height 28
pads (3):
  round 5.2 hole 2.2: 1(4,-21.75) 1(4,21.75)
  rect 8x50 smd: 1(4,0)
Top Overlay:
  lines w0.1: 8.35,-25 50,-25 50,25 8.35,25
Mechanical 8:
  lines w0.1: -0.5,0 0,0 ; 0,-0.5 0,0 ; 0,0.5 0,0 ; 0.5,0 0,0 ; 3.5,-21.75 4,-21.75 ; 3.5,0 4,0 ; 3.5,21.75 4,21.75 ; 4,-22.25 4,-21.75 ; 4,-21.25 4,-21.75 ; 4,-0.5 4,0 ; 4,0.5 4,0 ; 4,21.25 4,21.75 ; 4,22.25 4,21.75 ; 4.5,-21.75 4,-21.75 ; 4.5,21.75 4,21.75 ; 4.5,0 4,0
Mechanical 14:
  lines w0.1: 6,-25 6,25 ; 7,-25 7,25 ; 8,-25 8,25 ; 9,-25 9,25 ; 10,-25 10,25 ; 13,-25 13,25 ; 14.125,-25 14.125,25 ; 15,-25 15,25 ; 18.875,-25 18.875,25 ; 20,-25 20,25 ; 23,-25 23,25 ; 24,-25 24,25 ; 25,-25 25,25 ; 28,-25 28,25 ; 29,-25 29,25 ; 30,-25 30,25 ; 33,-25 33,25 ; 33.875,-25 33.875,25 ; 35,-25 35,25 ; 38,-25 38,25 ; 39,-25 39,25 ; 40,-25 40,25 ; 43,-25 43,25 ; 44,-25 44,25 ; 45,-25 45,25 ; 48,-25 48,25 ; 49,-25 49,25 ; 0,-25 0,25 50,25 50,-25 0,-25 ; 18,-25 18,25 18,-25
Mechanical 15:
  lines w0.1: -0.25,-25.25 50.25,-25.25 50.25,25.25 -0.25,25.25 -0.25,-25.25
3D body "HSINK_ABL_PPN0500B.stp": height 28.13, standoff 0, extent 0,-25 50,25

## HSINK_ATS_ATS-50350B-C1-R0 [mm] "35.0 x 35.0 x 7.5 mm BGA Heat Sink, Body 49.9mm x 35mm  Height 7.5mm"
height 7.5
Top Overlay:
  lines w0.2: -22.235,-17.125 ccw(c-17.5,-17.5) -16.972,-22.221 -8.291,-21.25 -3.375,-21.25 ; -22.235,17.125 cw(c-17.5,17.5) -16.972,22.221 -8.291,21.25 -3.375,21.25 ; -3.375,-17.125 -22.449,-17.125 -22.449,17.125 -3.375,17.125 ; -1.875,-21.948 -1.875,22.65 ; -1.875,-21.241 1.875,-21.241 ; -1.875,-17.125 1.875,-17.125 ; -1.875,17.125 1.875,17.125 ; -1.875,21.236 1.875,21.253 ; 1.875,-21.948 1.875,22.65 ; 3.375,-21.25 8.291,-21.25 16.972,-22.221 ccw(c17.5,-17.5) 22.235,-17.125 ; 3.375,-17.125 22.449,-17.125 22.449,17.125 3.375,17.125 ; 3.375,21.25 8.291,21.25 16.972,22.221 cw(c17.5,17.5) 22.235,17.125 ; -3.375,-21.948 3.375,-21.948 3.375,22.65 -3.375,22.65 -3.375,-21.948
Mechanical 8:
  lines w0.1: -0.5,0 0,0 ; 0,-0.5 0,0 ; 0,0.5 0,0 ; 0.5,0 0,0
Mechanical 14:
  lines w0.1: -22.235,-17.125 ccw(c-17.5,-17.5) -16.972,-22.221 -8.291,-21.25 -3.375,-21.25 ; -22.235,17.125 cw(c-17.5,17.5) -16.972,22.221 -8.291,21.25 -3.375,21.25 ; -21.86,-17.125 -21.86,17.125 ; -17.125,-17.125 -17.125,17.125 ; -16.102,-17.125 -16.102,17.125 ; -13.893,-17.125 -13.893,17.125 ; -11.411,-17.125 -11.411,17.125 ; -10.995,-17.125 -10.995,17.125 ; -8.915,-17.125 -8.915,17.125 ; -8.021,-17.125 -8.016,17.125 ; -6.408,-17.125 -6.408,17.125 ; -5.046,-17.125 -5.046,17.125 ; -3.894,-17.125 -3.894,17.125 ; -3.375,-17.125 -22.449,-17.125 -22.449,17.125 -3.375,17.125 ; -1.875,-21.948 -1.875,22.65 ; -1.875,-21.241 1.875,-21.241 ; -1.875,-17.125 1.875,-17.125 ; -1.875,17.125 1.875,17.125 ; -1.875,21.236 1.875,21.253 ; 1.875,-21.948 1.875,22.65 ; 3.375,-21.25 8.291,-21.25 16.972,-22.221 ccw(c17.5,-17.5) 22.235,-17.125 ; 3.375,-17.125 22.449,-17.125 22.449,17.125 3.375,17.125 ; 3.375,21.25 8.291,21.25 16.972,22.221 cw(c17.5,17.5) 22.235,17.125 ; 3.894,-17.125 3.894,17.125 ; 5.046,-17.125 5.046,17.125 ; 6.408,-17.125 6.408,17.125 ; 8.016,-17.125 8.021,17.125 ; 8.915,-17.125 8.915,17.125 ; 10.995,-17.125 10.995,17.125 ; 11.411,-17.125 11.411,17.125 ; 13.893,-17.125 13.893,17.125 ; 16.102,-17.125 16.102,17.125 ; 17.125,-17.125 17.125,17.125 ; 21.86,-17.125 21.86,17.125 ; -3.375,-21.948 3.375,-21.948 3.375,22.65 -3.375,22.65 -3.375,-21.948
3D body "HSINK_ATS_ATS-50350B-C1-R0.stp": height 11.25, standoff 0, extent -22.75,-22.75 22.75,22.75

## HSINK_CTS_AER27-27-12CB [mm] "Heat Sink BGA 12.3°C/W L 27mm x W 27mm x H 12mm"
height 12
Top Overlay:
  lines w0.2: -13.5,-13.5 13.5,-13.5 13.5,13.5 -13.5,13.5 -13.5,-13.5 ; -12.375,-11.25 -12.375,-10.75 -4.875,-10.75 -4.875,-11.25 -12.375,-11.25 ; -12.375,-8.5 -12.375,-8 -4.875,-8 -4.875,-8.5 -12.375,-8.5 ; -12.375,-5.75 -12.375,-5.25 -4.875,-5.25 -4.875,-5.75 -12.375,-5.75 ; -12.375,-3 -12.375,-2.5 -4.875,-2.5 -4.875,-3 -12.375,-3 ; -12.375,-0.25 -12.375,0.25 -4.875,0.25 -4.875,-0.25 -12.375,-0.25 ; -12.375,2.5 -12.375,3 -4.875,3 -4.875,2.5 -12.375,2.5 ; -12.375,5.25 -12.375,5.75 -4.875,5.75 -4.875,5.25 -12.375,5.25 ; -12.375,8 -12.375,8.5 -4.875,8.5 -4.875,8 -12.375,8 ; -12.375,10.75 -12.375,11.25 -4.875,11.25 -4.875,10.75 -12.375,10.75 ; -3.75,-11.25 -3.75,-10.75 3.75,-10.75 3.75,-11.25 -3.75,-11.25 ; -3.75,-8.5 -3.75,-8 3.75,-8 3.75,-8.5 -3.75,-8.5 ; -3.75,-5.75 -3.75,-5.25 3.75,-5.25 3.75,-5.75 -3.75,-5.75 ; -3.75,-3 -3.75,-2.5 3.75,-2.5 3.75,-3 -3.75,-3 ; -3.75,-0.25 -3.75,0.25 3.75,0.25 3.75,-0.25 -3.75,-0.25 ; -3.75,2.5 -3.75,3 3.75,3 3.75,2.5 -3.75,2.5 ; -3.75,5.25 -3.75,5.75 3.75,5.75 3.75,5.25 -3.75,5.25 ; -3.75,8 -3.75,8.5 3.75,8.5 3.75,8 -3.75,8 ; -3.75,10.75 -3.75,11.25 3.75,11.25 3.75,10.75 -3.75,10.75 ; 4.875,-11.25 4.875,-10.75 12.375,-10.75 12.375,-11.25 4.875,-11.25 ; 4.875,-8.5 4.875,-8 12.375,-8 12.375,-8.5 4.875,-8.5 ; 4.875,-5.75 4.875,-5.25 12.375,-5.25 12.375,-5.75 4.875,-5.75 ; 4.875,-3 4.875,-2.5 12.375,-2.5 12.375,-3 4.875,-3 ; 4.875,-0.25 4.875,0.25 12.375,0.25 12.375,-0.25 4.875,-0.25 ; 4.875,2.5 4.875,3 12.375,3 12.375,2.5 4.875,2.5 ; 4.875,5.25 4.875,5.75 12.375,5.75 12.375,5.25 4.875,5.25 ; 4.875,8 4.875,8.5 12.375,8.5 12.375,8 4.875,8 ; 4.875,10.75 4.875,11.25 12.375,11.25 12.375,10.75 4.875,10.75
Mechanical 8:
  lines w0.05: -0.5,0 0,0 ; 0,-0.5 0,0 ; 0,0.5 0,0 ; 0.5,0 0,0
Mechanical 14:
  lines w0.1: -13.5,-13.5 13.5,-13.5 13.5,13.5 -13.5,13.5 -13.5,-13.5 ; -12.375,-11.25 -12.375,-10.75 -4.875,-10.75 -4.875,-11.25 -12.375,-11.25 ; -12.375,-8.5 -12.375,-8 -4.875,-8 -4.875,-8.5 -12.375,-8.5 ; -12.375,-5.75 -12.375,-5.25 -4.875,-5.25 -4.875,-5.75 -12.375,-5.75 ; -12.375,-3 -12.375,-2.5 -4.875,-2.5 -4.875,-3 -12.375,-3 ; -12.375,-0.25 -12.375,0.25 -4.875,0.25 -4.875,-0.25 -12.375,-0.25 ; -12.375,2.5 -12.375,3 -4.875,3 -4.875,2.5 -12.375,2.5 ; -12.375,5.25 -12.375,5.75 -4.875,5.75 -4.875,5.25 -12.375,5.25 ; -12.375,8 -12.375,8.5 -4.875,8.5 -4.875,8 -12.375,8 ; -12.375,10.75 -12.375,11.25 -4.875,11.25 -4.875,10.75 -12.375,10.75 ; -3.75,-11.25 -3.75,-10.75 3.75,-10.75 3.75,-11.25 -3.75,-11.25 ; -3.75,-8.5 -3.75,-8 3.75,-8 3.75,-8.5 -3.75,-8.5 ; -3.75,-5.75 -3.75,-5.25 3.75,-5.25 3.75,-5.75 -3.75,-5.75 ; -3.75,-3 -3.75,-2.5 3.75,-2.5 3.75,-3 -3.75,-3 ; -3.75,-0.25 -3.75,0.25 3.75,0.25 3.75,-0.25 -3.75,-0.25 ; -3.75,2.5 -3.75,3 3.75,3 3.75,2.5 -3.75,2.5 ; -3.75,5.25 -3.75,5.75 3.75,5.75 3.75,5.25 -3.75,5.25 ; -3.75,8 -3.75,8.5 3.75,8.5 3.75,8 -3.75,8 ; -3.75,10.75 -3.75,11.25 3.75,11.25 3.75,10.75 -3.75,10.75 ; 4.875,-11.25 4.875,-10.75 12.375,-10.75 12.375,-11.25 4.875,-11.25 ; 4.875,-8.5 4.875,-8 12.375,-8 12.375,-8.5 4.875,-8.5 ; 4.875,-5.75 4.875,-5.25 12.375,-5.25 12.375,-5.75 4.875,-5.75 ; 4.875,-3 4.875,-2.5 12.375,-2.5 12.375,-3 4.875,-3 ; 4.875,-0.25 4.875,0.25 12.375,0.25 12.375,-0.25 4.875,-0.25 ; 4.875,2.5 4.875,3 12.375,3 12.375,2.5 4.875,2.5 ; 4.875,5.25 4.875,5.75 12.375,5.75 12.375,5.25 4.875,5.25 ; 4.875,8 4.875,8.5 12.375,8.5 12.375,8 4.875,8 ; 4.875,10.75 4.875,11.25 12.375,11.25 12.375,10.75 4.875,10.75
Mechanical 15:
  lines w0.05: -13.75,-13.75 -13.75,13.75 13.75,13.75 13.75,-13.75 -13.75,-13.75
3D body "HSINK_CTS_AER27-27-12CB.stp": height 12, standoff 0, extent -13.5,-13.5 13.5,13.5